# Altium schematic symbol library 0.2 - 二极管-TVS-整流桥.SchLib: 18 symbols
Pins are listed as number, name and electrical type; pins without a type are passive.

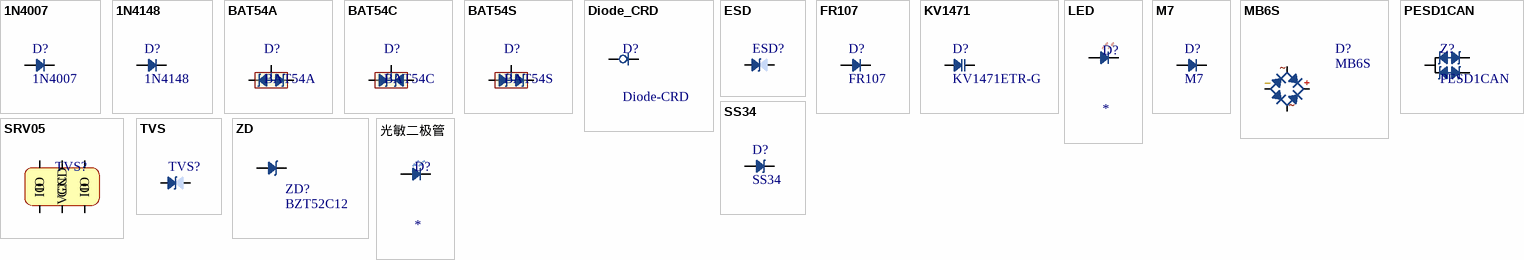
[diagram p0: symbols 1N4007 to 光敏二极管]

## 1N4007
designator D?
通用二极管; BOM名称: General Purpose Plastic Silicon Rectifier
footprint SOD-123 (2.7x1.6X1.1mm（长宽高，不包括引脚）)
footprint SMA (4.5x2.6*2.2mm（长宽高，不包括引脚）)
footprint DO-41V (2.6*3.5mm(直径，脚距）)
footprint DO-41 (2.6*9.1mm(直径，脚距）)
footprint SMB (4.7*3.9*2.2mm(长宽高，不包括引脚）)
footprint SMC (7.1x5.9*2.3mm（长宽高，不包括引脚）)
footprint R-6 (8.8*14.9mm(直径，脚距）)
footprint SOD-123F (2.7x1.6X1.1mm（长宽高，不包括引脚）)
footprint SOD-123W
footprint SOD-523 (1.2x0.8X0.6mm（长宽高，不包括引脚）)
footprint SOD-323 (1.8x1.3X0.9mm（长宽高，不包括引脚）)
footprint SOD-723 (1x0.6X0.5mm（长宽高，不包括引脚）)
pins: 1, 2

## 1N4148
designator D?
开关二极管; BOM名称: 高速开关二极管; 联系卖家，免费查找封装: 唯一出售店铺网址https://shop463601444.taobao.com
footprint DO-35 (1.8*6.8mm(直径，脚距）)
footprint MINI_MELF (LL34) (1.5*3.4mm(直径，脚距）)
footprint SOD-323 (1.8x1.3X0.9mm（长宽高，不包括引脚）)
footprint DO-35V (1.8*2.5mm(直径，脚距）)
pins: 1, 2

## BAT54A
designator D?
1对，共阳极，肖特基二极管; 联系卖家，免费查找封装: 唯一出售店铺网址https://shop463601444.taobao.com
footprint SOT23-3N (SOT23, 3-Leads, Body 2.9x1.3mm, Pitch 0.95mm, Lead Span 2.4mm, IPC Medium Density)
pins: 1, 2, 3

## BAT54C
designator D?
1对，共阴极，肖特基二极管; 联系卖家，免费查找封装: 唯一出售店铺网址https://shop463601444.taobao.com
footprint SOT23-3N (SOT23, 3-Leads, Body 2.9x1.3mm, Pitch 0.95mm, Lead Span 2.4mm, IPC Medium Density)
pins: 1, 2, 3

## BAT54S
designator D?
1对，串联，肖特基二极管; 联系卖家，免费查找封装: 唯一出售店铺网址https://shop463601444.taobao.com
footprint SOT23-3N (SOT23, 3-Leads, Body 2.9x1.3mm, Pitch 0.95mm, Lead Span 2.4mm, IPC Medium Density)
pins: 1, 2, 3

## Diode_CRD
designator D?, comment Diode-CRD
恒流二极管; 联系卖家，免费查找封装: 唯一出售店铺网址https://shop463601444.taobao.com; Code_JEDEC: DO-214-AB
footprint DO-41G (2.5*8.6mm(直径，脚距）)
footprint LL41 (2.4*5.3mm(直径，脚距）)
footprint SMA (4.5x2.6*2.2mm（长宽高，不包括引脚）)
pins: 1 A, 2 K

## ESD
designator ESD?, comment ESD5Z6.0T1G  (value not drawn)
ESD防静电二极管; BOM名称: 瞬态电压抑制二极管; 联系卖家，免费查找封装: 唯一出售店铺网址https://shop463601444.taobao.com; ComponentLink1Description: Datasheet; ComponentLink1URL: https://atta.szlcsc.com/upload/public/pdf/source/20190723/C406243_95DE90A11A3E0FBDEDD03B1469A04964.pdf?Expires=4070880000&OSSAccessKeyId=LTAIJDIkh7KmGS1H&Signature=83BOHtcyCqC84Mxa7A7b7Gs%2BWjM%3D&response-content-disposition=attachment%3Bfilename%3DC406243_ESD5Z7.0T1G_2019-07-23.PDF
footprint SOD-323 (1.8x1.3X0.9mm（长宽高，不包括引脚）)
footprint SOD-923 (0.8x0.6X0.4mm（长宽高，不包括引脚）       淘宝ID:黄晶宝石)
footprint SOD-523 (1.2x0.8X0.6mm（长宽高，不包括引脚）)
footprint SOD-123 (2.7x1.6X1.1mm（长宽高，不包括引脚） 淘宝ID:黄晶宝石)
footprint SOD-882
pins: 1, 2

## FR107
designator D?
快恢复二极管; 属性: 700V/1A; BOM名称: 快恢复二极管
footprint DO-41 (2.6*9.1mm(直径，脚距）)
footprint DO-41V (2.6*3.5mm(直径，脚距）)
pins: 1, 2

## KV1471
designator D?, comment KV1471ETR-G
变容二极管; 联系卖家，免费查找封装: 唯一出售店铺网址https://shop463601444.taobao.com; BOM名称: 变容二极管
footprint SOD-323 (1.8x1.3X0.9mm（长宽高，不包括引脚）)
pins: 1, 2

## LED
designator D?
发光二极管
footprint LED 5MM-W (白色5mm直插LED                                    淘宝ID:黄晶宝石)
pins: 1, 2

## M7
designator D?
整流二极管; 联系卖家，免费查找封装: 唯一出售店铺网址https://shop463601444.taobao.com; BOM名称: 整流二极管
footprint SMA (4.5x2.6*2.2mm（长宽高，不包括引脚）)
pins: 1, 2

## MB6S
designator D?
整流桥; BOM名称: Bridge Rectifiers
footprint GBU (整流桥，脚距：5mm/200mil)
footprint KBL (19*6.25*15.7mm(长宽高))
footprint KBP (14.7*4.8*12.2mm(长宽高))
footprint KBU (23*6.6*19.1mm(长宽高))
footprint MBF (4.7*7*1.5mm(长宽高))
footprint MBM (4.8*5.2*2.5mm(长宽高))
footprint MBS (4.1*6.8*2.5mm(长宽高))
footprint DBS (8.5*10.1*3mm(长宽高))
footprint BR3 (18*7.1mm(宽高))
footprint BR8 (16*8mm(宽高))
footprint DB (8.5*7.6*3mm(长宽高))
footprint GBP (14.2*2.9*10.5mm(长宽高))
footprint WOM (8.1*5.1mm(直径，高))
footprint RB-15 (8.9*3.5mm(直径，高))
footprint RB-20 (8.9*3.5mm(直径，高))
pins: AC1, AC2, DC+, DC-
text: ~; _; +

## PESD1CAN
designator Z?
过压保护; 联系卖家，免费查找封装: 唯一出售店铺网址https://shop463601444.taobao.com
footprint SOT-23
pins: 1, 2, 3

## SRV05
designator TVS?, comment PESD5V0S1BA  (value not drawn)
TVS DIODE ARRAY; BOM名称: 瞬态电压抑制二极管; 联系卖家，免费查找封装: 唯一出售店铺网址https://shop463601444.taobao.com
footprint SOT23-6L (SOT-23, 6-Leads, Body 2.90x1.60mm, Pitch 0.95mm, IPC High Density)
footprint SOT23-6M (SOT-23, 6-Leads, Body 2.90x1.60mm, Pitch 0.95mm, IPC Low Density)
footprint SOT23-6N (SOT-23, 6-Leads, Body 2.90x1.60mm, Pitch 0.95mm, IPC Medium Density)
pins: 1 IO, 2 GND, 3 IO, 4 IO, 5 VCC, 6 IO

## SS34
designator D?
肖特基二极管; BOM名称: 整流二极管; 属性: 40V  5A; 联系卖家，免费查找封装: 唯一出售店铺网址https://shop463601444.taobao.com
footprint DO-27 (5.2*14.9mm(直径，脚距）)
footprint DO-27V (5.2*5.5mm(直径，脚距）)
footprint SMA (4.5x2.6*2.2mm（长宽高，不包括引脚）)
footprint SMB (4.7*3.9*2.2mm(长宽高，不包括引脚）)
footprint SMC (7.1x5.9*2.3mm（长宽高，不包括引脚）)
footprint SOD-323 (1.8x1.3X0.9mm（长宽高，不包括引脚）)
footprint SOD-523 (1.2x0.8X0.6mm（长宽高，不包括引脚）)
footprint SOD-923 (0.8x0.6X0.4mm（长宽高，不包括引脚）       淘宝ID:黄晶宝石)
footprint SOD-123 (2.7x1.6X1.1mm（长宽高，不包括引脚） 淘宝ID:黄晶宝石)
footprint DO-201AD (5.2*15.2mm(直径，脚距）)
footprint DO-201ADV (5.2*5.5mm(直径，脚距）)
footprint DO-41 (2.6*9.1mm(直径，脚距）)
footprint DO-41V (2.6*3.5mm(直径，脚距）)
footprint DO-15 (3.3*10.3mm(直径，脚距）)
footprint DO-15L (4*11.4mm(直径，脚距）)
footprint DO-15LV (4*4.5mm(直径，脚距）)
footprint DO-15V (3.3*4mm(直径，脚距）)
footprint DO-35 (1.8*6.8mm(直径，脚距）)
footprint DO-35V (1.8*2.5mm(直径，脚距）)
footprint SOD-723 (1x0.6X0.5mm（长宽高，不包括引脚）)
footprint SOD-882
footprint SOD-123F (2.7x1.6X1.1mm（长宽高，不包括引脚）)
pins: 1, 2

## TVS
designator TVS?, comment PESD5V0S1BA  (value not drawn)
瞬态电压抑制二极管; 联系卖家，免费查找封装: 唯一出售店铺网址https://shop463601444.taobao.com; BOM名称: 瞬态电压抑制二极管
footprint SOD-323 (1.8x1.3X0.9mm（长宽高，不包括引脚）)
footprint SOD-923 (0.8x0.6X0.4mm（长宽高，不包括引脚）       淘宝ID:黄晶宝石)
footprint SOD-523 (1.2x0.8X0.6mm（长宽高，不包括引脚）)
footprint SOD-123 (2.7x1.6X1.1mm（长宽高，不包括引脚） 淘宝ID:黄晶宝石)
footprint SMB (4.7*3.9*2.2mm(长宽高，不包括引脚）)
footprint SMA (4.5x2.6*2.2mm（长宽高，不包括引脚）)
footprint SMC (7.1x5.9*2.3mm（长宽高，不包括引脚）)
footprint SOD-123F (2.7x1.6X1.1mm（长宽高，不包括引脚）)
footprint SOD-123w
footprint SOD-882
pins: 1, 2

## ZD
designator ZD?, comment BZT52C12
稳压二级管(Zener Diodes); BOM名称: Zener Diodes
footprint DO-35 (1.8*6.8mm(直径，脚距）)
footprint DO-35V (1.8*2.5mm(直径，脚距）)
footprint DO-213AA (1.5*3.5mm(直径，脚距）)
footprint DO-213AB (2.5*5.6mm(直径，脚距）)
footprint SOD-123 (2.7x1.6X1.1mm（长宽高，不包括引脚） 淘宝ID:黄晶宝石)
footprint SOD-123F (2.7x1.6X1.1mm（长宽高，不包括引脚）)
footprint SOD-123W
footprint SOD-323 (1.8x1.3X0.9mm（长宽高，不包括引脚）)
footprint SOD-523 (1.2x0.8X0.6mm（长宽高，不包括引脚）)
footprint SMA (4.5x2.6*2.2mm（长宽高，不包括引脚）)
footprint SMB (4.7*3.9*2.2mm(长宽高，不包括引脚）)
footprint LL34 (1.5*3.4mm(直径，脚距）)
footprint LL41 (2.4*5.3mm(直径，脚距）)
pins: 1, 2

## 光敏二极管
designator D?
Photosensitive Diode; 联系卖家，免费查找封装: 唯一出售店铺网址https://shop463601444.taobao.com
footprint LED 5MM-W (白色5mm直插LED                                    淘宝ID:黄晶宝石)
pins: 1, 2